# Altium footprint library LABLIB.PcbLib: 94 footprints (part 1 of 6)
Each footprint in its own frame and in the unit in brackets; x right, y up, seen from the top. Pads: shape width x height; smd on the part's side, far side on the other; paste and mask are expansions set on the pad; w line width, h text height; cw(c..) or ccw(c..) is an arc to the next point about the centre after c.
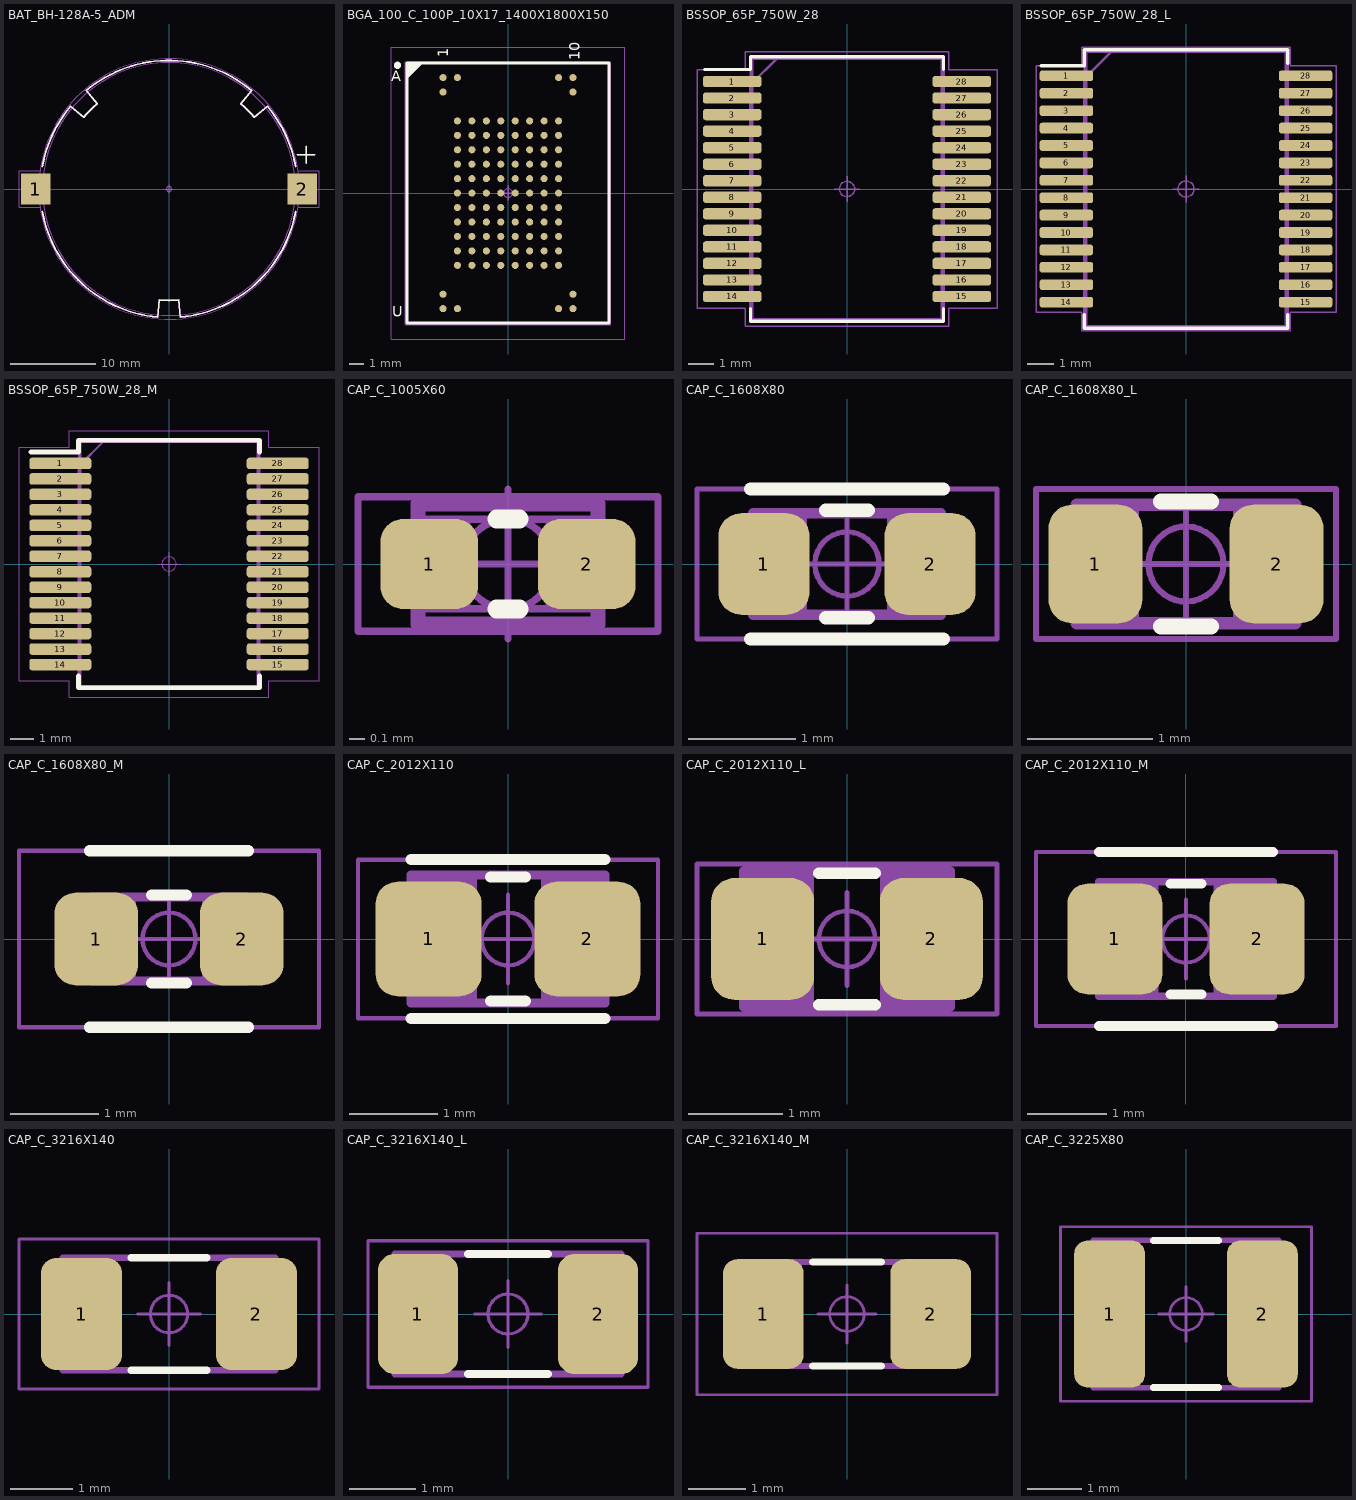
[diagram p0: the footprints below, top view; thin cyan lines are the x and y axes]

## BAT_BH-128A-5_ADM [mil]
pads (2):
  rect 134x142 smd paste+0 mask+0: 1(-612.2,0) 2(612.2,0)
Top Overlay:
  lines w7.87: -581.58,-102.55 ccw(c0,0) -51.47,-588.3 -44.61,-509.86 ; -581.58,102.55 cw(c0,0) -452.39,379.6 -392.07,328.99 cw(c0,0) -328.99,392.07 -379.6,452.39 cw(c0,0) 378.06,453.67 ; -44.6,-509.76 ccw(c0.58,0.05) 44.61,-509.86 51.47,-588.3 ccw(c0,0) 581.58,-102.55 ; 379.6,452.39 328.99,392.07 cw(c0,0) 392.07,328.99 452.39,379.6 cw(c0,0) 581.58,102.55 ; 590.55,157.48 669.29,157.48 ; 629.92,118.11 629.92,196.85
Top Assembly:
  lines w0: -580.5,0 ccw(c0,0) 0,-580.5
  lines w7.87: -581.58,-102.55 ccw(c0,0) -51.47,-588.3 -44.61,-509.86 ; -581.58,102.55 cw(c0,0) -452.39,379.6 -392.07,328.99 cw(c0,0) -328.99,392.07 -379.6,452.39 cw(c0,0) 378.06,453.67 ; -44.6,-509.76 ccw(c0.58,0.05) 44.61,-509.86 51.47,-588.3 ccw(c0,0) 581.58,-102.55 ; 379.6,452.39 328.99,392.07 cw(c0,0) 392.07,328.99 452.39,379.6 cw(c0,0) 581.58,102.55 ; 590.55,157.48 669.29,157.48 ; 629.92,118.11 629.92,196.85
  text "'.Designator'" at -155.57,-24.48 h59.06
Top Courtyard:
  circle w3.94: c0,0 r598.42
  lines w1.97: -594.49,-82.68 -688.98,-82.68 -688.98,70.87 -688.98,78.74 -688.98,82.68 -594.49,82.68 ; 594.49,-82.68 688.98,-82.68 688.98,82.68 594.49,82.68
Top Component Outline:
  circle w3.94: c0,0 r580.71
Top Component Center:
  circle w1.97: c0,0 r11.81
  lines w1.97: -19.68,0 19.68,0 ; 0,-19.68 0,19.68
Mechanical 13:
  lines w0: -580.5,0 cw(c0,0) 0,580.5 cw(c0,0) 580.5,0 cw(c0,0) 0,-580.5
3D body: height 338.58, standoff 0, extent -598.42,-598.42 598.42,598.42

## BGA_100_C_100P_10X17_1400X1800X150 [mm] "BGA, 100-Leads, Body 14.00x18.00mmx1.50mm, Pitch 1.00mm"
height 1.5
pads (200):
  round 0.49 smd: A1(-4.5,8) A2(-3.5,8) A9(3.5,8) A10(4.5,8) B1(-4.5,7) B10(4.5,7) D2(-3.5,5) D3(-2.5,5) D4(-1.5,5) D5(-0.5,5) D6(0.5,5) D7(1.5,5) D8(2.5,5) D9(3.5,5) E2(-3.5,4) E3(-2.5,4) E4(-1.5,4) E5(-0.5,4) E6(0.5,4) E7(1.5,4) E8(2.5,4) E9(3.5,4) F2(-3.5,3) F3(-2.5,3) F4(-1.5,3) F5(-0.5,3) F6(0.5,3) F7(1.5,3) F8(2.5,3) F9(3.5,3) G2(-3.5,2) G3(-2.5,2) G4(-1.5,2) G5(-0.5,2) G6(0.5,2) G7(1.5,2) G8(2.5,2) G9(3.5,2) H2(-3.5,1) H3(-2.5,1) H4(-1.5,1) H5(-0.5,1) H6(0.5,1) H7(1.5,1) H8(2.5,1) H9(3.5,1) J2(-3.5,0) J3(-2.5,0) J4(-1.5,0) J5(-0.5,0) J6(0.5,0) J7(1.5,0) J8(2.5,0) J9(3.5,0) K2(-3.5,-1) K3(-2.5,-1) K4(-1.5,-1) K5(-0.5,-1) K6(0.5,-1) K7(1.5,-1) K8(2.5,-1) K9(3.5,-1) L2(-3.5,-2) L3(-2.5,-2) L4(-1.5,-2) L5(-0.5,-2) L6(0.5,-2) L7(1.5,-2) L8(2.5,-2) L9(3.5,-2) M2(-3.5,-3) M3(-2.5,-3) M4(-1.5,-3) M5(-0.5,-3) M6(0.5,-3) M7(1.5,-3) M8(2.5,-3) M9(3.5,-3) N2(-3.5,-4) N3(-2.5,-4) N4(-1.5,-4) N5(-0.5,-4) N6(0.5,-4) N7(1.5,-4) N8(2.5,-4) N9(3.5,-4) P2(-3.5,-5) P3(-2.5,-5) P4(-1.5,-5) P5(-0.5,-5) P6(0.5,-5) P7(1.5,-5) P8(2.5,-5) P9(3.5,-5) T1(-4.5,-7) T10(4.5,-7) U1(-4.5,-8) U2(-3.5,-8) U9(3.5,-8) U10(4.5,-8)
  round 0.35 on Mech8 paste+0 mask+0: A1(-4.5,8) A2(-3.5,8) A9(3.5,8) A10(4.5,8) B1(-4.5,7) B10(4.5,7) D2(-3.5,5) D3(-2.5,5) D4(-1.5,5) D5(-0.5,5) D6(0.5,5) D7(1.5,5) D8(2.5,5) D9(3.5,5) E2(-3.5,4) E3(-2.5,4) E4(-1.5,4) E5(-0.5,4) E6(0.5,4) E7(1.5,4) E8(2.5,4) E9(3.5,4) F2(-3.5,3) F3(-2.5,3) F4(-1.5,3) F5(-0.5,3) F6(0.5,3) F7(1.5,3) F8(2.5,3) F9(3.5,3) G2(-3.5,2) G3(-2.5,2) G4(-1.5,2) G5(-0.5,2) G6(0.5,2) G7(1.5,2) G8(2.5,2) G9(3.5,2) H2(-3.5,1) H3(-2.5,1) H4(-1.5,1) H5(-0.5,1) H6(0.5,1) H7(1.5,1) H8(2.5,1) H9(3.5,1) J2(-3.5,0) J3(-2.5,0) J4(-1.5,0) J5(-0.5,0) J6(0.5,0) J7(1.5,0) J8(2.5,0) J9(3.5,0) K2(-3.5,-1) K3(-2.5,-1) K4(-1.5,-1) K5(-0.5,-1) K6(0.5,-1) K7(1.5,-1) K8(2.5,-1) K9(3.5,-1) L2(-3.5,-2) L3(-2.5,-2) L4(-1.5,-2) L5(-0.5,-2) L6(0.5,-2) L7(1.5,-2) L8(2.5,-2) L9(3.5,-2) M2(-3.5,-3) M3(-2.5,-3) M4(-1.5,-3) M5(-0.5,-3) M6(0.5,-3) M7(1.5,-3) M8(2.5,-3) M9(3.5,-3) N2(-3.5,-4) N3(-2.5,-4) N4(-1.5,-4) N5(-0.5,-4) N6(0.5,-4) N7(1.5,-4) N8(2.5,-4) N9(3.5,-4) P2(-3.5,-5) P3(-2.5,-5) P4(-1.5,-5) P5(-0.5,-5) P6(0.5,-5) P7(1.5,-5) P8(2.5,-5) P9(3.5,-5) T1(-4.5,-7) T10(4.5,-7) U1(-4.5,-8) U2(-3.5,-8) U9(3.5,-8) U10(4.5,-8)
Top Overlay:
  circle w0.25: c-7.65,8.85 r0.125
  region: -6,9 -7,8 -7,9
  lines w0.2: -7,8 -6,9 ; -7,-9 7,-9 7,9 -7,9 -7,-9
  text "A" at -8.1,7.5 h1.27
  text "U" at -8,-8.8 h1.27
  text "1" at -3.9,9.4 h1.27
  text "10" at 5.2,9.2 h1.27
Top Assembly:
  lines w0.025: -7.048,8.555 -6.549,9.055 ; -7.048,-9.055 7.048,-9.055 7.048,9.055 -7.048,9.055 -7.048,-9.055
  lines w0.1: -7,-9 7,-9 7,9 -7,9 -7,-9
  text "A" at -8.319,7.365 h1.27
  text "U" at -8.319,-8.635 h1.27
  text "1" at -3.865,9.69 h1.27
  text "10" at 5.135,9.69 h1.27
  text "'.Designator'" at -3.952,-0.622 h1.5
Top Courtyard:
  lines w0.05: -8.1,-10.1 8.1,-10.1 8.1,10.1 -8.1,10.1 -8.1,-10.1
  lines w0.1: -0.5,0 0.5,0 ; 0,-0.5 0,0.5
Top Component Outline:
  lines w0.05: -7.1,-9.1 7.1,-9.1 7.1,9.1 -7.1,9.1 -7.1,-9.1
Top Component Center:
  circle w0.05: c0,0 r0.3
  lines w0.05: -0.5,0 0.5,0 ; 0,-0.5 0,0.5
3D body "BGA100C100P10X17_1400X1800X150.step": height 1.5, standoff 0, extent -7,-9 7,9

## BSSOP_65P_750W_28 [mm]
pads (28):
  rrect50% 2.303x0.443 smd mask+0.11: 1(-4.515,4.225) 2(-4.515,3.575) 3(-4.515,2.925) 4(-4.515,2.275) 5(-4.515,1.625) 6(-4.515,0.975) 7(-4.515,0.325) 8(-4.515,-0.325) 9(-4.515,-0.975) 10(-4.515,-1.625) 11(-4.515,-2.275) 12(-4.515,-2.925) 13(-4.515,-3.575) 14(-4.515,-4.225) 15(4.515,-4.225) 16(4.515,-3.575) 17(4.515,-2.925) 18(4.515,-2.275) 19(4.515,-1.625) 20(4.515,-0.975) 21(4.515,-0.325) 22(4.515,0.325) 23(4.515,0.975) 24(4.515,1.625) 25(4.515,2.275) 26(4.515,2.925) 27(4.515,3.575) 28(4.515,4.225)
Top Overlay:
  lines w0.125: -5.6,4.7 -3.8,4.7 -3.8,5.2 3.8,5.2 3.8,4.7 ; -3.8,-4.7 -3.8,-5.2 3.8,-5.2 3.8,-4.8 3.8,-4.7
Top Assembly:
  lines w0.1: -3.8,-5.2 -3.8,4.1 -2.7,5.2 3.8,5.2 3.8,-5.2 -3.8,-5.2
  text "'.Designator'" at -3.952,-0.622 h1.5
Top Courtyard:
  lines w0.05: -5.9,-4.7 -4,-4.7 -4,-5.4 4,-5.4 4,-4.7 5.9,-4.7 5.9,4.7 4,4.7 4,5.4 3.8,5.4 -4,5.4 -4,4.7 -5.9,4.7 -5.9,-4.6 -5.9,-4.7
Top Component Outline:
  rectangle: -5.31,4.05 -4.04,4.4
  rectangle: 4.04,-4.4 5.31,-4.05
  rectangle: 4.04,-3.75 5.31,-3.4
  rectangle: 4.04,-3.1 5.31,-2.75
  rectangle: 4.04,-2.45 5.31,-2.1
  rectangle: 4.04,-1.8 5.31,-1.45
  rectangle: 4.04,-1.15 5.31,-0.8
  rectangle: 4.04,-0.5 5.31,-0.15
  rectangle: 4.04,0.15 5.31,0.5
  rectangle: 4.04,0.8 5.31,1.15
  rectangle: 4.04,1.45 5.31,1.8
  rectangle: 4.04,2.1 5.31,2.45
  rectangle: 4.04,2.75 5.31,3.1
  rectangle: 4.04,4.05 5.31,4.4
  rectangle: 4.04,3.4 5.31,3.75
  rectangle: -5.31,-1.8 -4.04,-1.45
  rectangle: -5.31,-1.15 -4.04,-0.8
  rectangle: -5.31,-0.5 -4.04,-0.15
  rectangle: -5.31,-2.45 -4.04,-2.1
  rectangle: -5.31,-4.4 -4.04,-4.05
  rectangle: -5.31,-3.75 -4.04,-3.4
  rectangle: -5.31,-3.1 -4.04,-2.75
  rectangle: -5.31,2.1 -4.04,2.45
  rectangle: -5.31,2.75 -4.04,3.1
  rectangle: -5.31,3.4 -4.04,3.75
  rectangle: -5.31,0.15 -4.04,0.5
  rectangle: -5.31,0.8 -4.04,1.15
  rectangle: -5.31,1.45 -4.04,1.8
  lines w0.05: -3.8,-5.2 3.8,-5.2 3.8,5.2 -3.8,5.2 -3.8,-5.2
Top Component Center:
  circle w0.05: c0,0 r0.3
  lines w0.05: -0.5,0 0.5,0 ; 0,-0.5 0,0.5
Mechanical 13:
  lines w0.15: -3.75,-5.15 -3.75,5.15 3.75,5.15 3.75,-5.15 -3.75,-5.15
3D body "DP0028A.stp": height 2.59, standoff 0, extent -5.167,-5.15 5.167,5.15

## BSSOP_65P_750W_28_L [mm]
pads (28):
  rrect50% 2.003x0.403 smd: 1(-4.465,4.225) 2(-4.465,3.575) 3(-4.465,2.925) 4(-4.465,2.275) 5(-4.465,1.625) 6(-4.465,0.975) 7(-4.465,0.325) 8(-4.465,-0.325) 9(-4.465,-0.975) 10(-4.465,-1.625) 11(-4.465,-2.275) 12(-4.465,-2.925) 13(-4.465,-3.575) 14(-4.465,-4.225) 15(4.465,-4.225) 16(4.465,-3.575) 17(4.465,-2.925) 18(4.465,-2.275) 19(4.465,-1.625) 20(4.465,-0.975) 21(4.465,-0.325) 22(4.465,0.325) 23(4.465,0.975) 24(4.465,1.625) 25(4.465,2.275) 26(4.465,2.925) 27(4.465,3.575) 28(4.465,4.225)
Top Overlay:
  lines w0.125: -5.4,4.6 -3.8,4.6 -3.8,4.7 -3.8,5.2 3.8,5.2 3.8,4.7 ; -3.8,-4.7 -3.8,-5.2 3.8,-5.2 3.8,-4.8 3.8,-4.7
Top Assembly:
  lines w0.1: -3.8,-5.2 -3.8,4.1 -2.7,5.2 3.8,5.2 3.8,-5.2 -3.8,-5.2
  text "'.Designator'" at -3.952,-0.622 h1.5
Top Courtyard:
  lines w0.05: -5.6,-4.6 -3.9,-4.6 -3.9,-5.3 3.9,-5.3 3.9,-4.6 5.6,-4.6 5.6,4.6 3.9,4.6 3.9,5.3 3.8,5.3 -3.9,5.3 -3.9,4.6 -5.6,4.6 -5.6,-4.5 -5.6,-4.6
Top Component Outline:
  rectangle: -5.31,4.05 -4.04,4.4
  rectangle: 4.04,-4.4 5.31,-4.05
  rectangle: 4.04,-3.75 5.31,-3.4
  rectangle: 4.04,-3.1 5.31,-2.75
  rectangle: 4.04,-2.45 5.31,-2.1
  rectangle: 4.04,-1.8 5.31,-1.45
  rectangle: 4.04,-1.15 5.31,-0.8
  rectangle: 4.04,-0.5 5.31,-0.15
  rectangle: 4.04,0.15 5.31,0.5
  rectangle: 4.04,0.8 5.31,1.15
  rectangle: 4.04,1.45 5.31,1.8
  rectangle: 4.04,2.1 5.31,2.45
  rectangle: 4.04,2.75 5.31,3.1
  rectangle: 4.04,4.05 5.31,4.4
  rectangle: 4.04,3.4 5.31,3.75
  rectangle: -5.31,-1.8 -4.04,-1.45
  rectangle: -5.31,-1.15 -4.04,-0.8
  rectangle: -5.31,-0.5 -4.04,-0.15
  rectangle: -5.31,-2.45 -4.04,-2.1
  rectangle: -5.31,-4.4 -4.04,-4.05
  rectangle: -5.31,-3.75 -4.04,-3.4
  rectangle: -5.31,-3.1 -4.04,-2.75
  rectangle: -5.31,2.1 -4.04,2.45
  rectangle: -5.31,2.75 -4.04,3.1
  rectangle: -5.31,3.4 -4.04,3.75
  rectangle: -5.31,0.15 -4.04,0.5
  rectangle: -5.31,0.8 -4.04,1.15
  rectangle: -5.31,1.45 -4.04,1.8
  lines w0.05: -3.8,-5.2 3.8,-5.2 3.8,5.2 -3.8,5.2 -3.8,-5.2
Top Component Center:
  circle w0.05: c0,0 r0.3
  lines w0.05: -0.5,0 0.5,0 ; 0,-0.5 0,0.5
Mechanical 13:
  lines w0.15: -3.75,-5.15 -3.75,5.15 3.75,5.15 3.75,-5.15 -3.75,-5.15
3D body "DP0028A.stp": height 2.59, standoff 0, extent -5.167,-5.15 5.167,5.15

## BSSOP_65P_750W_28_M [mm]
pads (28):
  rrect50% 2.603x0.483 smd: 1(-4.565,4.225) 2(-4.565,3.575) 3(-4.565,2.925) 4(-4.565,2.275) 5(-4.565,1.625) 6(-4.565,0.975) 7(-4.565,0.325) 8(-4.565,-0.325) 9(-4.565,-0.975) 10(-4.565,-1.625) 11(-4.565,-2.275) 12(-4.565,-2.925) 13(-4.565,-3.575) 14(-4.565,-4.225) 15(4.565,-4.225) 16(4.565,-3.575) 17(4.565,-2.925) 18(4.565,-2.275) 19(4.565,-1.625) 20(4.565,-0.975) 21(4.565,-0.325) 22(4.565,0.325) 23(4.565,0.975) 24(4.565,1.625) 25(4.565,2.275) 26(4.565,2.925) 27(4.565,3.575) 28(4.565,4.225)
Top Overlay:
  lines w0.2: -5.8,4.7 -3.8,4.7 -3.8,5.2 3.8,5.2 3.8,4.7 ; -3.8,-4.7 -3.8,-5.2 3.8,-5.2 3.8,-4.8 3.8,-4.7
Top Assembly:
  lines w0.1: -3.8,-5.2 3.8,-5.2 3.8,5.2 -2.7,5.2 -3.8,4.1 -3.8,-5.2
  text "'.Designator'" at -3.952,-0.622 h1.5
Top Courtyard:
  lines w0.05: -6.3,-4.9 -6.3,4.9 -4.2,4.9 -4.2,5.6 3.8,5.6 4.2,5.6 4.2,4.9 6.3,4.9 6.3,4.7 6.3,-4.9 4.2,-4.9 4.2,-5.6 -4.2,-5.6 -4.2,-4.9 -6.3,-4.9
Top Component Outline:
  rectangle: -5.31,1.45 -4.04,1.8
  rectangle: -5.31,0.8 -4.04,1.15
  rectangle: -5.31,0.15 -4.04,0.5
  rectangle: -5.31,3.4 -4.04,3.75
  rectangle: -5.31,2.75 -4.04,3.1
  rectangle: -5.31,2.1 -4.04,2.45
  rectangle: -5.31,-3.1 -4.04,-2.75
  rectangle: -5.31,-3.75 -4.04,-3.4
  rectangle: -5.31,-4.4 -4.04,-4.05
  rectangle: -5.31,-2.45 -4.04,-2.1
  rectangle: -5.31,-0.5 -4.04,-0.15
  rectangle: -5.31,-1.15 -4.04,-0.8
  rectangle: -5.31,-1.8 -4.04,-1.45
  rectangle: 4.04,3.4 5.31,3.75
  rectangle: 4.04,4.05 5.31,4.4
  rectangle: 4.04,2.75 5.31,3.1
  rectangle: 4.04,2.1 5.31,2.45
  rectangle: 4.04,1.45 5.31,1.8
  rectangle: 4.04,0.8 5.31,1.15
  rectangle: 4.04,0.15 5.31,0.5
  rectangle: 4.04,-0.5 5.31,-0.15
  rectangle: 4.04,-1.15 5.31,-0.8
  rectangle: 4.04,-1.8 5.31,-1.45
  rectangle: 4.04,-2.45 5.31,-2.1
  rectangle: 4.04,-3.1 5.31,-2.75
  rectangle: 4.04,-3.75 5.31,-3.4
  rectangle: 4.04,-4.4 5.31,-4.05
  rectangle: -5.31,4.05 -4.04,4.4
  lines w0.05: -3.8,-5.2 -3.8,5.2 3.8,5.2 3.8,-5.2 -3.8,-5.2
Top Component Center:
  circle w0.05: c0,0 r0.3
  lines w0.05: -0.5,0 0.5,0 ; 0,-0.5 0,0.5
Mechanical 13:
  lines w0.15: -3.75,-5.15 3.75,-5.15 3.75,5.15 -3.75,5.15 -3.75,-5.15
3D body "DP0028A.stp": height 2.59, standoff 0, extent -5.167,-5.15 5.167,5.15

## CAP_C_1005X60 [mm]
pads (2):
  rrect50% 0.65x0.6 smd mask+0.05: 1(-0.525,0) 2(0.525,0)
Top Overlay:
  lines w0.125: -0.075,-0.3 0.075,-0.3 ; -0.075,0.3 0.075,0.3
Top Assembly:
  lines w0.1: -0.6,-0.4 -0.6,0.4 0.6,0.4 0.6,-0.4 -0.6,-0.4
  text "'.Designator'" at -4.433,-0.827 h1.6
Top Courtyard:
  lines w0.05: -1,-0.45 -0.575,-0.45 1,-0.45 1,0.45 -1,0.45 -1,-0.45
Top Component Outline:
  rectangle: 0.25,-0.3 0.55,0.3
  rectangle: -0.55,-0.3 -0.25,0.3
  lines w0.05: -0.55,-0.3 -0.55,0.3 0.55,0.3 0.55,-0.3 -0.55,-0.3
Top Component Center:
  circle w0.05: c0,0 r0.3
  lines w0.05: -0.5,0 0.5,0 ; 0,-0.5 0,0.5
3D body "capacitor-0402C.step": height 0.35, standoff 0, extent -0.5,-0.265 0.5,0.265

## CAP_C_1608X80 [mm] "Chip Capacitor, 2-Leads, Body 1.60x0.80mm, IPC Medium Density"
height 0.85
pads (2):
  rrect50% 0.85x0.95 smd: 1(-0.775,0) 2(0.775,0)
Top Overlay:
  lines w0.125: -0.9,-0.7 0.9,-0.7 ; -0.9,0.7 0.9,0.7 ; -0.2,-0.5 0.2,-0.5 ; -0.2,0.5 0.2,0.5
Top Assembly:
  lines w0.1: -0.875,-0.475 0.875,-0.475 0.875,0.475 -0.875,0.475 -0.875,-0.475
  text "'.Designator'" at -4.217,-0.663 h1.6
Top Courtyard:
  lines w0.05: -1.4,-0.7 1.4,-0.7 1.4,0.7 -1.4,0.7 -1.4,-0.7
Top Component Outline:
  rectangle: -0.875,-0.475 -0.375,0.475
  rectangle: 0.375,-0.475 0.875,0.475
  lines w0.05: -0.875,-0.475 -0.875,0.475 0.875,0.475 0.875,-0.475 -0.875,-0.475
Top Component Center:
  circle w0.05: c0,0 r0.3
  lines w0.05: -0.5,0 0.5,0 ; 0,-0.5 0,0.5
3D body "CAPC1608X80.step": height 0.85, standoff 0, extent -0.875,-0.475 0.875,0.475

## CAP_C_1608X80_L [mm] "Chip Capacitor, 2-Leads, Body 1.60x0.80mm, IPC High Density"
height 0.85
pads (2):
  rrect50% 0.75x0.95 smd: 1(-0.725,0) 2(0.725,0)
Top Overlay:
  lines w0.125: -0.2,-0.5 0.2,-0.5 ; -0.2,0.5 0.2,0.5
Top Assembly:
  lines w0.1: -0.875,-0.475 -0.875,0.475 0.875,0.475 0.875,-0.475 -0.875,-0.475
  text "'.Designator'" at -4.217,-0.663 h1.6
Top Courtyard:
  lines w0.05: -1.2,-0.6 1.2,-0.6 1.2,0.6 -1.2,0.6 -1.2,-0.6
Top Component Outline:
  rectangle: 0.375,-0.475 0.875,0.475
  rectangle: -0.875,-0.475 -0.375,0.475
  lines w0.05: -0.875,-0.475 0.875,-0.475 0.875,0.475 -0.875,0.475 -0.875,-0.475
Top Component Center:
  circle w0.05: c0,0 r0.3
  lines w0.05: -0.5,0 0.5,0 ; 0,-0.5 0,0.5
3D body "CAPC1608X80_L.step": height 0.85, standoff 0, extent -0.875,-0.475 0.875,0.475

## CAP_C_1608X80_M [mm] "Chip Capacitor, 2-Leads, Body 1.60x0.80mm, IPC Low Density"
height 0.85
pads (2):
  rrect50% 0.95x1.05 smd: 1(-0.825,0) 2(0.825,0)
Top Overlay:
  lines w0.125: -0.9,-1 0.9,-1 ; -0.9,1 0.9,1 ; -0.2,-0.5 0.2,-0.5 ; -0.2,0.5 0.2,0.5
Top Assembly:
  lines w0.1: -0.875,-0.475 0.875,-0.475 0.875,0.475 -0.875,0.475 -0.875,-0.475
  text "'.Designator'" at -4.217,-0.663 h1.6
Top Courtyard:
  lines w0.05: -1.7,-1 -1.7,1 1.7,1 1.7,-1 -1.7,-1
Top Component Outline:
  rectangle: -0.875,-0.475 -0.375,0.475
  rectangle: 0.375,-0.475 0.875,0.475
  lines w0.05: -0.875,-0.475 -0.875,0.475 0.875,0.475 0.875,-0.475 -0.875,-0.475
Top Component Center:
  circle w0.05: c0,0 r0.3
  lines w0.05: -0.5,0 0.5,0 ; 0,-0.5 0,0.5
3D body "CAPC1608X80_M.step": height 0.85, standoff 0, extent -0.875,-0.475 0.875,0.475

## CAP_C_2012X110 [mm] "Chip Capacitor, 2-Leads, Body 2.00x1.25mm, IPC High Density"
height 1.1
pads (2):
  rrect41% 1.2x1.3 smd: 1(-0.9,0) 2(0.9,0)
Top Overlay:
  lines w0.125: -1.1,-0.9 1.1,-0.9 ; -1.1,0.9 1.1,0.9 ; -0.2,-0.7 0.2,-0.7 ; -0.2,0.7 0.2,0.7
Top Assembly:
  lines w0.1: -1.1,-0.725 -1.1,0.725 1.1,0.725 1.1,-0.725 -1.1,-0.725
  text "'.Designator'" at -3.952,-0.622 h1.5
Top Courtyard:
  lines w0.05: -1.7,-0.9 1.7,-0.9 1.7,0.9 -1.7,0.9 -1.7,-0.9
Top Component Outline:
  rectangle: 0.375,-0.725 1.125,0.725
  rectangle: -1.1,-0.725 -0.35,0.725
  lines w0.05: -1.1,-0.725 1.1,-0.725 1.1,0.725 -1.1,0.725 -1.1,-0.725
Top Component Center:
  circle w0.05: c0,0 r0.3
  lines w0.05: -0.5,0 0.5,0 ; 0,-0.5 0,0.5
3D body "CAPC2012X110.step": height 1.1, standoff 0, extent -1.1,-0.725 1.1,0.725

## CAP_C_2012X110_L [mm] "Chip Capacitor, 2-Leads, Body 2.00x1.25mm, IPC High Density"
height 1.1
pads (2):
  rrect45% 1.1x1.3 smd: 1(-0.9,0) 2(0.9,0)
Top Overlay:
  lines w0.125: -0.3,-0.7 0.3,-0.7 ; -0.3,0.7 0.3,0.7
Top Assembly:
  lines w0.1: -1.1,-0.725 -1.1,0.725 1.1,0.725 1.1,-0.725 -1.1,-0.725
  text "'.Designator'" at -3.952,-0.622 h1.5
Top Courtyard:
  lines w0.05: -1.6,-0.8 -1.6,0.8 1.6,0.8 1.6,-0.8 -1.6,-0.8
Top Component Outline:
  region: 1.1,0.725 0.35,0.725 0.35,-0.725 1.1,-0.725
  rectangle: -1.1,-0.725 -0.35,0.725
  lines w0.05: -1.1,-0.725 -1.1,0.725 1.1,0.725 1.1,-0.725 -1.1,-0.725
Top Component Center:
  circle w0.05: c0,0 r0.3
  lines w0.05: -0.5,0 0.5,0 ; 0,-0.5 0,0.5
3D body "CAPC2012X110_L.step": height 1.1, standoff 0, extent -1.1,-0.725 1.1,0.725

## CAP_C_2012X110_M [mm] "Chip Capacitor, 2-Leads, Body 2.00x1.25mm, IPC High Density"
height 1.1
pads (2):
  rrect41% 1.2x1.4 smd: 1(-0.9,0) 2(0.9,0)
Top Overlay:
  lines w0.125: -1.1,-1.1 1.1,-1.1 ; -1.1,1.1 1.1,1.1 ; -0.2,-0.7 0.2,-0.7 ; -0.2,0.7 0.2,0.7
Top Assembly:
  lines w0.1: -1.1,-0.725 1.1,-0.725 1.1,0.725 -1.1,0.725 -1.1,-0.725
  text "'.Designator'" at -3.952,-0.622 h1.5
Top Courtyard:
  lines w0.05: -1.9,-1.1 1.9,-1.1 1.9,1.1 -1.9,1.1 -1.9,-1.1
Top Component Outline:
  rectangle: -1.1,-0.725 -0.35,0.725
  region: 1.1,0.725 0.35,0.725 0.35,-0.725 1.1,-0.725
  lines w0.05: -1.1,-0.725 1.1,-0.725 1.1,0.725 -1.1,0.725 -1.1,-0.725
Top Component Center:
  circle w0.05: c0,0 r0.3
  lines w0.05: -0.5,0 0.5,0 ; 0,-0.5 0,0.5
3D body "CAPC2012X110_M.step": height 1.1, standoff 0, extent -1.1,-0.725 1.1,0.725

## CAP_C_3216X140 [mm] "Chip Capacitor, 2-Leads, Body 3.20x1.60mm, IPC High Density"
height 1.35
pads (2):
  rrect38% 1.3x1.8 smd: 1(-1.4,0) 2(1.4,0)
Top Overlay:
  lines w0.125: -0.6,-0.9 0.6,-0.9 ; -0.6,0.9 0.6,0.9
Top Assembly:
  lines w0.1: -1.7,-0.9 1.7,-0.9 1.7,0.9 -1.7,0.9 -1.7,-0.9
  text "'.Designator'" at -3.952,-0.622 h1.5
Top Courtyard:
  lines w0.05: -2.4,-1.2 2.4,-1.2 2.4,1.2 -2.4,1.2 -2.4,-1.2
Top Component Outline:
  region: 1.7,0.9 0.95,0.9 0.95,-0.9 1.7,-0.9
  rectangle: -1.7,-0.9 -0.95,0.9
  lines w0.05: -1.7,-0.9 -1.7,0.9 1.7,0.9 1.7,-0.9 -1.7,-0.9
Top Component Center:
  circle w0.05: c0,0 r0.3
  lines w0.05: -0.5,0 0.5,0 ; 0,-0.5 0,0.5
3D body "CAPC3216X140.step": height 1.35, standoff 0, extent -1.7,-0.9 1.7,0.9

## CAP_C_3216X140_L [mm] "Chip Capacitor, 2-Leads, Body 3.20x1.60mm, IPC High Density"
height 1.35
pads (2):
  rrect41% 1.2x1.8 smd: 1(-1.35,0) 2(1.35,0)
Top Overlay:
  lines w0.125: -0.6,-0.9 0.6,-0.9 ; -0.6,0.9 0.6,0.9
Top Assembly:
  lines w0.1: -1.7,-0.9 1.7,-0.9 1.7,0.9 -1.7,0.9 -1.7,-0.9
  text "'.Designator'" at -3.952,-0.622 h1.5
Top Courtyard:
  lines w0.05: -2.1,-1.1 2.1,-1.1 2.1,1.1 -2.1,1.1 -2.1,-1.1
Top Component Outline:
  region: 1.7,0.9 0.95,0.9 0.95,-0.9 1.7,-0.9
  rectangle: -1.7,-0.9 -0.95,0.9
  lines w0.05: -1.7,-0.9 -1.7,0.9 1.7,0.9 1.7,-0.9 -1.7,-0.9
Top Component Center:
  circle w0.05: c0,0 r0.3
  lines w0.05: -0.5,0 0.5,0 ; 0,-0.5 0,0.5
3D body "CAPC3216X140_L.step": height 1.35, standoff 0, extent -1.7,-0.9 1.7,0.9

## CAP_C_3216X140_M [mm] "Chip Capacitor, 2-Leads, Body 3.20x1.60mm, IPC High Density"
height 1.35
pads (2):
  rrect35% 1.4x1.9 smd: 1(-1.45,0) 2(1.45,0)
Top Overlay:
  lines w0.125: -0.6,-0.9 0.6,-0.9 ; -0.6,0.9 0.6,0.9
Top Assembly:
  lines w0.1: -1.7,-0.9 -1.7,0.9 1.7,0.9 1.7,-0.9 -1.7,-0.9
  text "'.Designator'" at -3.952,-0.622 h1.5
Top Courtyard:
  lines w0.05: -2.6,-1.4 2.6,-1.4 2.6,1.4 -2.6,1.4 -2.6,-1.4
Top Component Outline:
  rectangle: -1.7,-0.9 -0.95,0.9
  region: 1.7,0.9 0.95,0.9 0.95,-0.9 1.7,-0.9
  lines w0.05: -1.7,-0.9 1.7,-0.9 1.7,0.9 -1.7,0.9 -1.7,-0.9
Top Component Center:
  circle w0.05: c0,0 r0.3
  lines w0.05: -0.5,0 0.5,0 ; 0,-0.5 0,0.5
3D body "CAPC3216X140_M.step": height 1.35, standoff 0, extent -1.7,-0.9 1.7,0.9

## CAP_C_3225X80 [mm] "Chip Capacitor, 2-Leads, Body 3.20x2.50mm, IPC Medium Density"
height 0.75
pads (2):
  rrect38% 1.3x2.7 smd: 1(-1.4,0) 2(1.4,0)
Top Overlay:
  lines w0.125: -0.6,-1.35 0.6,-1.35 ; -0.6,1.35 0.6,1.35
Top Assembly:
  lines w0.1: -1.7,-1.35 -1.7,1.35 1.7,1.35 1.7,-1.35 -1.7,-1.35
  text "'.Designator'" at -3.952,-0.622 h1.5
Top Courtyard:
  lines w0.05: -2.3,-1.6 2.3,-1.6 2.3,1.6 -2.3,1.6 -2.3,-1.6
Top Component Outline:
  rectangle: -1.7,-1.35 -0.95,1.35
  region: 1.7,1.35 0.95,1.35 0.95,-1.35 1.7,-1.35
  lines w0.05: -1.7,-1.35 1.7,-1.35 1.7,1.35 -1.7,1.35 -1.7,-1.35
Top Component Center:
  circle w0.05: c0,0 r0.3
  lines w0.05: -0.5,0 0.5,0 ; 0,-0.5 0,0.5
3D body "CAPC3225X80.step": height 0.75, standoff 0, extent -1.7,-1.35 1.7,1.35